# EAGLE library part LT3507 (library kwoo)
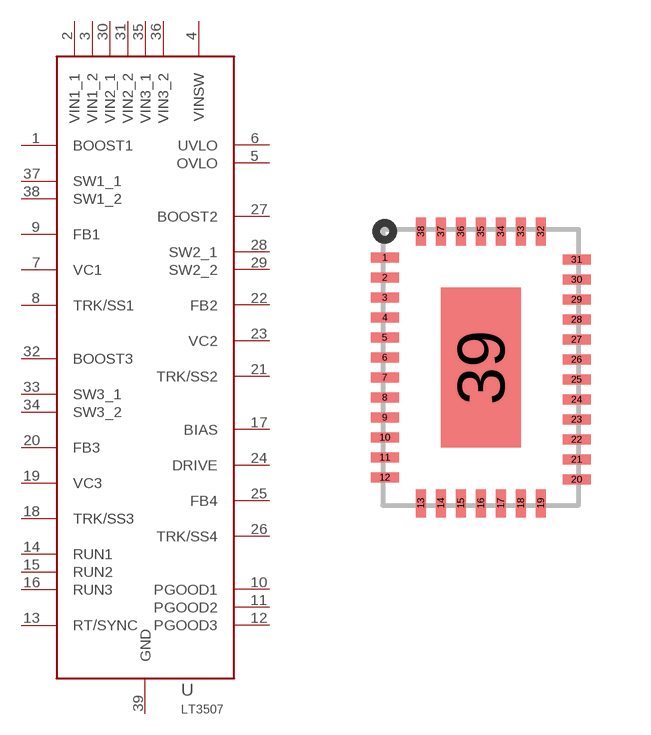
[diagram p0: symbol with the pads of 38-QFN; footprint 38-QFN]

Designator prefix -

## LT3507  [38-QFN]
1  BOOST1
2  VIN1_1  pwr
3  VIN1_2  pwr
4  VINSW
5  OVLO
6  UVLO
7  VC1
8  TRK/SS1
9  FB1
10  PGOOD1  out
11  PGOOD2  out
12  PGOOD3  out
13  RT/SYNC
14  RUN1  in
15  RUN2  in
16  RUN3  in
17  BIAS
18  TRK/SS3
19  VC3
20  FB3
21  TRK/SS2
22  FB2
23  VC2
24  DRIVE
25  FB4
26  TRK/SS4
27  BOOST2
28  SW2_1
29  SW2_2
30  VIN2_1  pwr
31  VIN2_2  pwr
32  BOOST3
33  SW3_1
34  SW3_2
35  VIN3_1  pwr
36  VIN3_2  pwr
37  SW1_1
38  SW1_2
39  GND  pwr

## Footprint 38-QFN (pad centres in mm)
smd 0.7 x 0.25: 1 -2.4,2.75; 2 -2.4,2.25; 3 -2.4,1.75; 4 -2.4,1.25; 5 -2.4,0.75; 6 -2.4,0.25; 7 -2.4,-0.25; 8 -2.4,-0.75; 9 -2.4,-1.25; 10 -2.4,-1.75; 11 -2.4,-2.25; 12 -2.4,-2.75; 20 2.4,-2.8; 21 2.4,-2.3; 22 2.4,-1.8; 23 2.4,-1.3; 24 2.4,-0.8; 25 2.4,-0.3; 26 2.4,0.2; 27 2.4,0.7; 28 2.4,1.2; 29 2.4,1.7; 30 2.4,2.2; 31 2.4,2.7
smd 0.25 x 0.7: 13 -1.5,-3.4; 14 -1,-3.4; 15 -0.5,-3.4; 16 0,-3.4; 17 0.5,-3.4; 18 1,-3.4; 19 1.5,-3.4; 32 1.5,3.4; 33 1,3.4; 34 0.5,3.4; 35 0,3.4; 36 -0.5,3.4; 37 -1,3.4; 38 -1.5,3.4
smd 2 x 4: 39 0,0